# EAGLE library part ACS711 (library OfficineRobotiche)
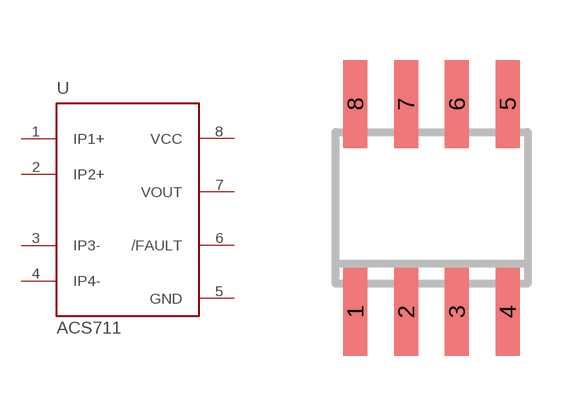
[diagram p4: symbol with the pads of SO08; footprint SO08]

Designator prefix U

## ACS711  [SO08]
1  IP1+
2  IP2+
3  IP3-
4  IP4-
5  GND
6  /FAULT
7  VOUT
8  VCC

## Footprint SO08 (pad centres in mm)
smd 0.6 x 2.2: 1 -1.905,-2.6; 2 -0.635,-2.6; 3 0.635,-2.6; 4 1.905,-2.6; 5 1.905,2.6; 6 0.635,2.6; 7 -0.635,2.6; 8 -1.905,2.6